# Altium footprint library Diode_Diodes_1N4148W-7-F_2A.PcbLib: 1 footprints
Each footprint in its own frame and in the unit in brackets; x right, y up, seen from the top. Pads: shape width x height; smd on the part's side, far side on the other; paste and mask are expansions set on the pad; w line width, h text height; cw(c..) or ccw(c..) is an arc to the next point about the centre after c.
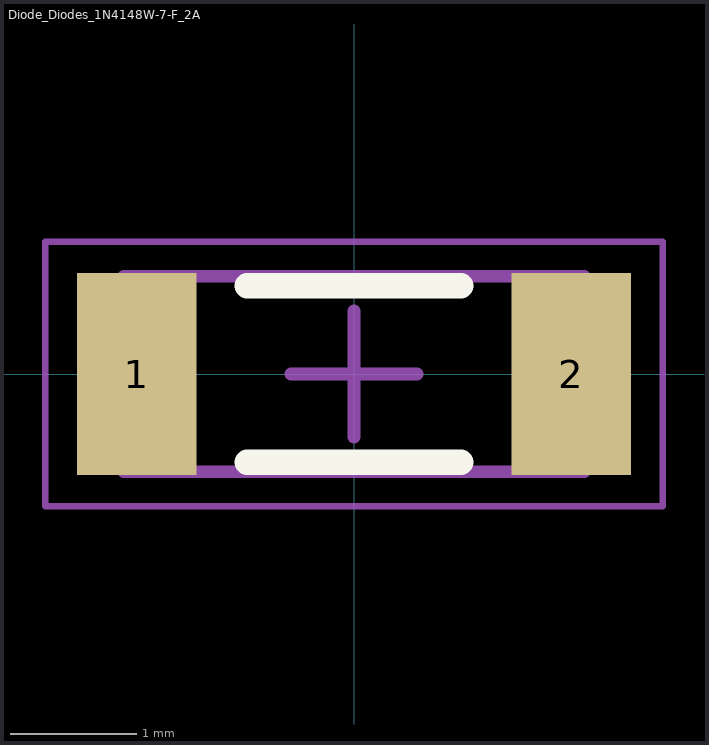
[diagram p0: the footprint, top view; thin cyan lines are the x and y axes]

## Diode_Diodes_1N4148W-7-F_2A [mm]
height 1.05
pads (2):
  rect 0.95x1.6 smd: 1(-1.725,0) 2(1.725,0)
Top Overlay:
  lines w0.2: -0.85,-0.7 0.85,-0.7 ; -0.85,0.7 0.85,0.7
Bottom Overlay:
  text "K" at -2.159,1.27 h0.4
Mechanical 13:
  lines w0.1: -1.825,-0.775 -1.825,0.775 1.825,0.775 1.825,-0.775 -1.825,-0.775
Mechanical 15:
  lines w0.05: -2.45,-1.05 -2.45,1.05 2.45,1.05 2.45,-1.05 -2.45,-1.05
  lines w0.1: -0.5,0 0.5,0 ; 0,-0.5 0,0.5
3D body "Chip2PinSM127P600-8N.step": height 1.05, standoff 0, extent -1.825,-0.775 1.825,0.775